# Altium schematic symbol library Schlib1.SchLib: 95 symbols (part 2 of 2)
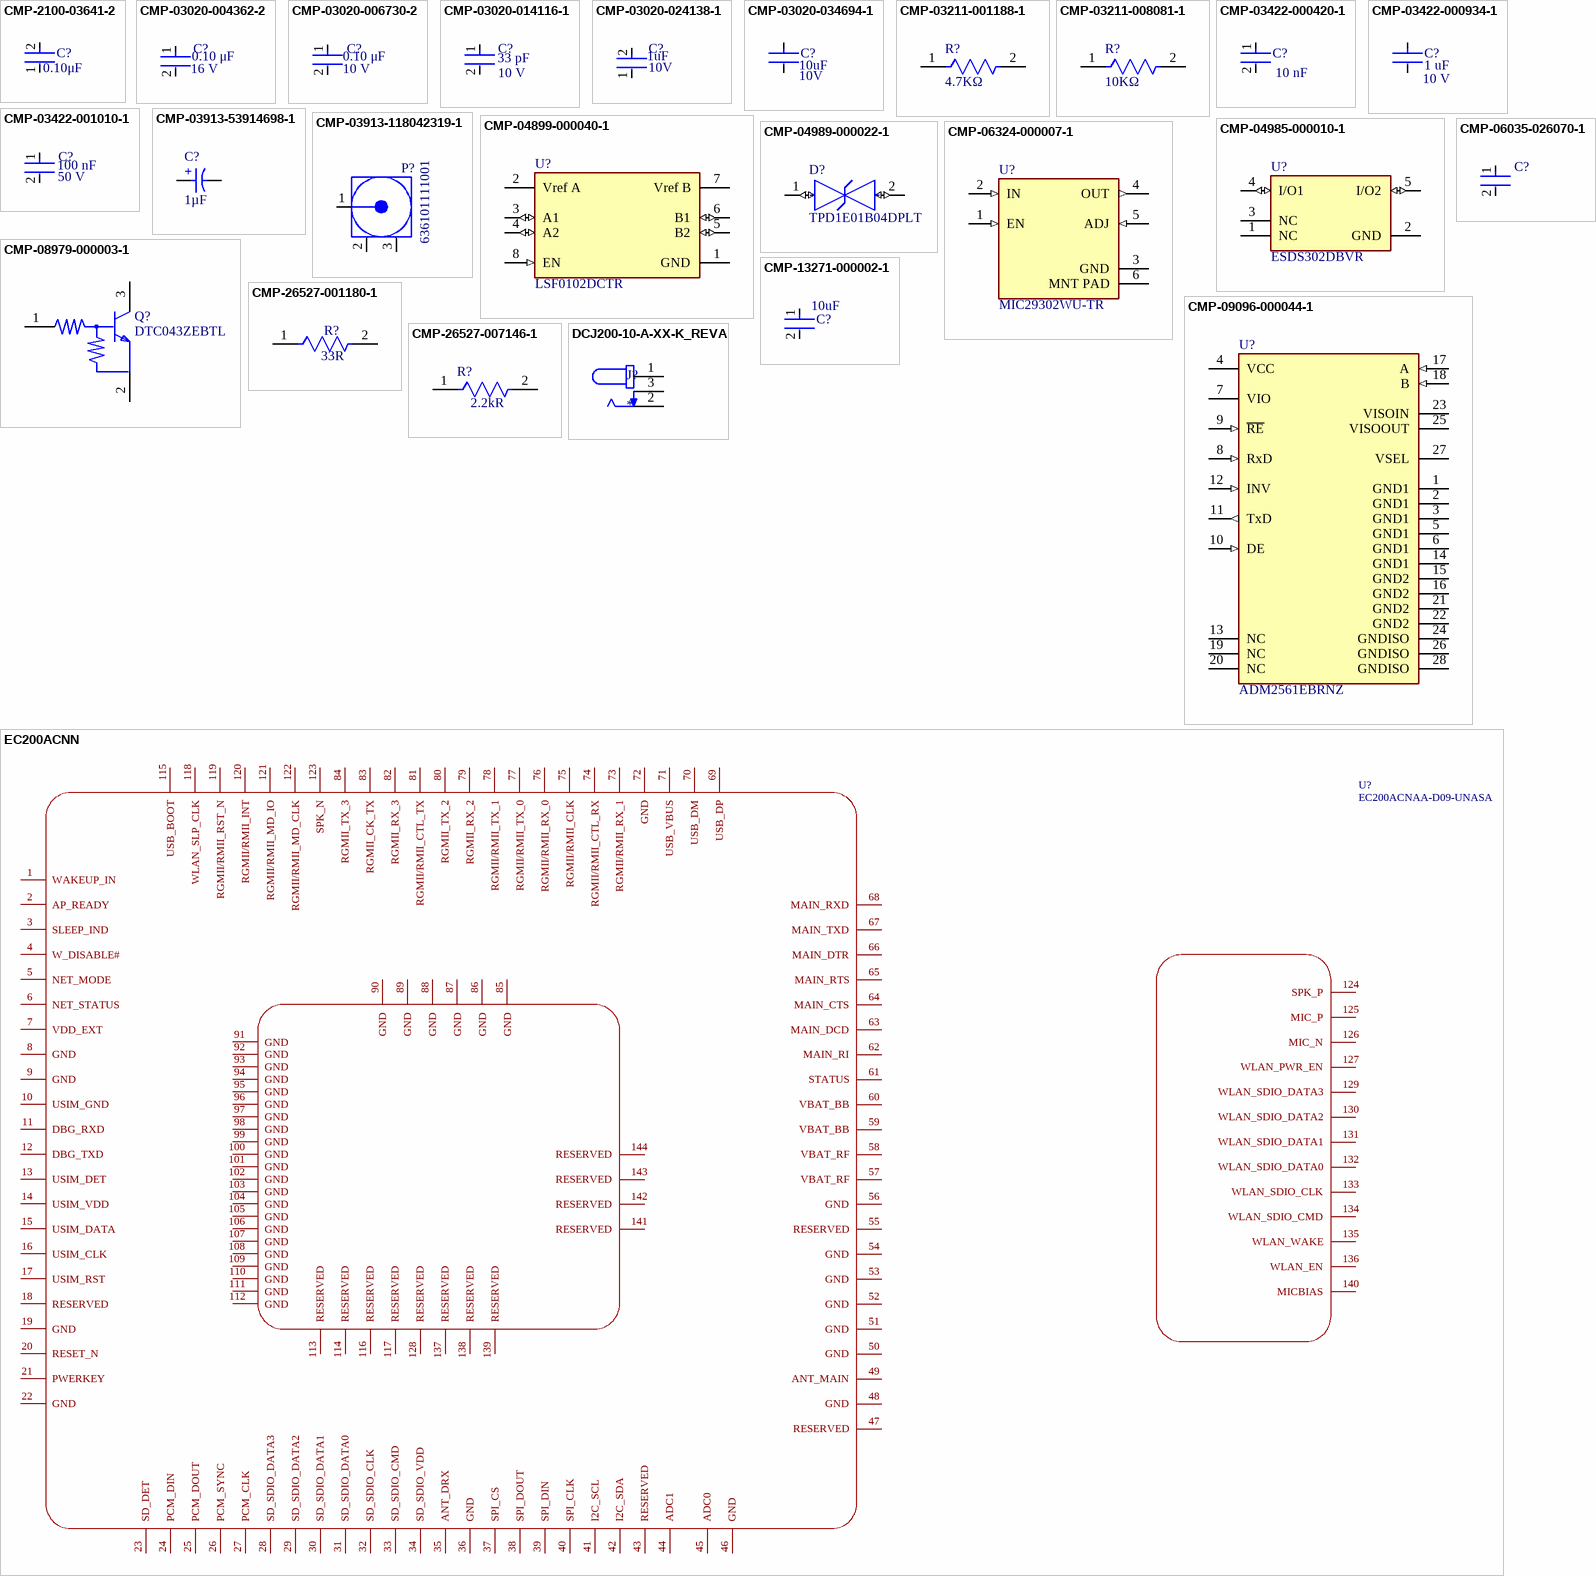
[diagram p4: symbols CMP-2100-03641-2 to EC200ACNN]

## CMP-26527-001180-1
designator R?, comment Resistance: 33R  (hidden comment: RMCF0402JT33R0)
33 Ohms ±5% 0.063W, 1/16W Chip Resistor 0402 (1005 Metric) Automotive AEC-Q200 Thick Film; Max Power Dissipation: 63mW; Temperature Coefficient: 100ppm/°C; Case Code (Metric): 1005; Number of Terminations: 2; Mount: Surface Mount; Case Code (Imperial): 0402; Width: 0.02inch; Max Operating Temperature: 155°C; Radiation Hardening: No; Series: RMCF; Tolerance: 5%; Min Operating Temperature: -55°C; Length: 0.039inch; Case/Package: 0402; RoHS Compliant: Yes; Packaging: Tape and Reel; Features: Automotive AEC-Q200; Height: 0.016inch; Contact Plating: Tin; Resistor Type: Thick Film
footprint FP-RMCF0402-MFG
footprint FP-RMCF0402-IPC_C
footprint FP-RMCF0402-IPC_B
footprint FP-RMCF0402-IPC_A
pins: 1, 2

## CMP-26527-007146-1
designator R?, comment Resistance: 2.2kR  (hidden comment: RMCF0201JT2K20)
2.2 kOhms ±5% 0.05W, 1/20W Chip Resistor 0201 (0603 Metric) Thick Film; Max Power Dissipation: 50mW; Temperature Coefficient: 200ppm/°C; Tolerance: 5%; Number of Terminations: 2; RoHS Compliant: Yes; Max Operating Temperature: 125°C; Resistor Type: Thick Film; Width: 0.012inch; Power Rating: 50mW; Contact Plating: Tin; Height: 0.009inch; Min Operating Temperature: -55°C; Radiation Hardening: No; Case Code (Imperial): 0201; Case/Package: 0201; Mount: Surface Mount; Packaging: Tape and Reel; Case Code (Metric): 0603; Length: 0.024inch; Series: RMCF
footprint FP-RMCF0201-IPC_B
pins: 1, 2

## DCJ200-10-A-XX-K_REVA
designator J?
Power Barrel Connector Jack 2.05mm ID (0.081), 5.50mm OD (0.217) Through Hole, Right Angle; MF: Global Connector Technology; MP: DCJ200-10-A-K1-K; SnapEDA_Link: https://www.snapeda.com/parts/DCJ200-10-A-K1-K/Global+Connector+Technology/view-part/?ref=snap; Package: None; Value: *; Check_prices: https://www.snapeda.com/parts/DCJ200-10-A-K1-K/Global+Connector+Technology/view-part/?ref=eda
footprint GCT_DCJ200-10-A-XX-K_REVA
pins: 1, 2, 3

## EC200ACNN
designator U?, comment EC200ACNAA-D09-UNASA
EC200A-CN-LTE Cat 4 module-EC200ACNAA-D09-UNASA; Add into BOM: yes; Symbol: EC200ACNN; Source: 4G_GATEWAY_ETHERNET.SCHLIB; Convert to PCB: yes; Pin Count: 144; Component Type: Standard; Supplier Part: EC200A; Origin Footprint: EC200ACN; Design Item ID: EC200ACNN; Device: EC200ACNN
footprint EC200ACN
pins: 1 WAKEUP_IN, 2 AP_READY, 3 SLEEP_IND, 4 W_DISABLE#, 5 NET_MODE, 6 NET_STATUS, 7 VDD_EXT, 8 GND, 9 GND, 10 USIM_GND, 11 DBG_RXD, 12 DBG_TXD, 13 USIM_DET, 14 USIM_VDD, 15 USIM_DATA, 16 USIM_CLK, 17 USIM_RST, 18 RESERVED, 19 GND, 20 RESET_N, 21 PWERKEY, 22 GND, 23 SD_DET, 24 PCM_DIN, 25 PCM_DOUT, 26 PCM_SYNC, 27 PCM_CLK, 28 SD_SDIO_DATA3, 29 SD_SDIO_DATA2, 30 SD_SDIO_DATA1, 31 SD_SDIO_DATA0, 32 SD_SDIO_CLK, 33 SD_SDIO_CMD, 34 SD_SDIO_VDD, 35 ANT_DRX, 36 GND, 37 SPI_CS, 38 SPI_DOUT, 39 SPI_DIN, 40 SPI_CLK, 41 I2C_SCL, 42 I2C_SDA, 43 RESERVED, 44 ADC1, 45 ADC0, 46 GND, 47 RESERVED, 48 GND, 49 ANT_MAIN, 50 GND, 51 GND, 52 GND, 53 GND, 54 GND, 55 RESERVED, 56 GND, 57 VBAT_RF, 58 VBAT_RF, 59 VBAT_BB, 60 VBAT_BB, 61 STATUS, 62 MAIN_RI, 63 MAIN_DCD, 64 MAIN_CTS, 65 MAIN_RTS, 66 MAIN_DTR, 67 MAIN_TXD, 68 MAIN_RXD, 69 USB_DP, 70 USB_DM, 71 USB_VBUS, 72 GND, 73 RGMII/RMII_RX_1, 74 RGMII/RMII_CTL_RX, 75 RGMII/RMII_CLK, 76 RGMII/RMII_RX_0, 77 RGMII/RMII_TX_0, 78 RGMII/RMII_TX_1, 79 RGMII_RX_2, 80 RGMII_TX_2, 81 RGMII/RMII_CTL_TX, 82 RGMII_RX_3, 83 RGMII_CK_TX, 84 RGMII_TX_3, 85 GND, 86 GND, 87 GND, 88 GND, 89 GND, 90 GND, 91 GND, 92 GND, 93 GND, 94 GND, 95 GND, 96 GND, 97 GND, 98 GND, 99 GND, 100 GND, 101 GND, 102 GND, 103 GND, 104 GND, 105 GND, 106 GND, 107 GND, 108 GND, 109 GND, 110 GND, 111 GND, 112 GND, 113 RESERVED, 114 RESERVED, 115 USB_BOOT, 116 RESERVED, 117 RESERVED, 118 WLAN_SLP_CLK, 119 RGMII/RMII_RST_N, 120 RGMII/RMII_INT, 121 RGMII/RMII_MD_IO, 122 RGMII/RMII_MD_CLK, 123 SPK_N, 124 SPK_P, 125 MIC_P, 126 MIC_N, 127 WLAN_PWR_EN, 128 RESERVED, 129 WLAN_SDIO_DATA3, 130 WLAN_SDIO_DATA2, 131 WLAN_SDIO_DATA1, 132 WLAN_SDIO_DATA0, 133 WLAN_SDIO_CLK, 134 WLAN_SDIO_CMD, 135 WLAN_WAKE, 136 WLAN_EN, 137 RESERVED, 138 RESERVED, 139 RESERVED, 140 MICBIAS, 141 RESERVED, 142 RESERVED, 143 RESERVED, 144 RESERVED

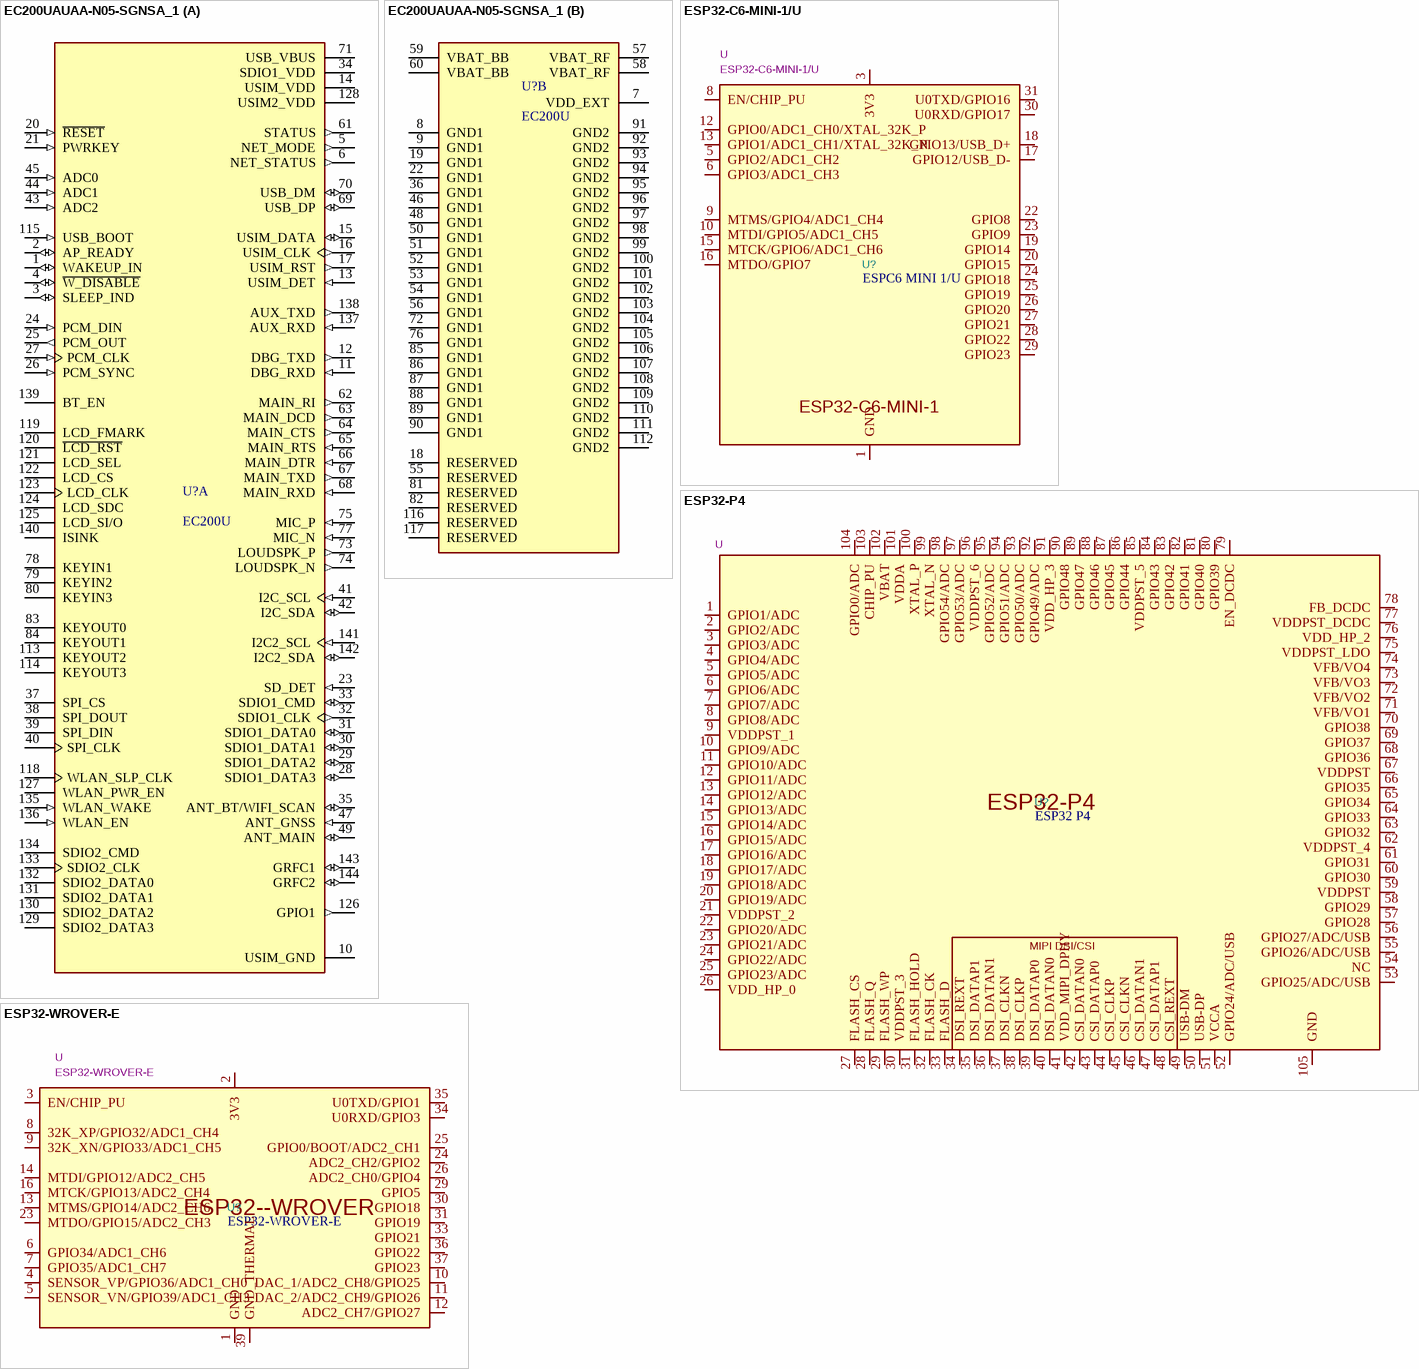
[diagram p2: symbols EC200UAUAA-N05-SGNSA_1 to ESP32-WROVER-E]

## EC200UAUAA-N05-SGNSA_1
designator U?, comment EC200U
Quectel 4G LTE Cat 1 wireless BT GNSS module; MP: EC200UAUAA-N05-SGNSA; SnapEDA_Link: https://www.snapeda.com/parts/EC200UAUAA-N05-SGNSA/Quectel/view-part/?ref=snap; Package: None; Value: *; MF: Quectel; Check_prices: https://www.snapeda.com/parts/EC200UAUAA-N05-SGNSA/Quectel/view-part/?ref=eda
footprint EC200UAUAA-N05-SGNSA
part A pins: 1 WAKEUP_IN (io), 2 AP_READY (io), 3 SLEEP_IND (io), 4 ~{W_DISABLE} (io), 5 NET_MODE (out), 6 NET_STATUS (out), 10 USIM_GND (power), 11 DBG_RXD (in), 12 DBG_TXD (out), 13 USIM_DET (in), 14 USIM_VDD (power), 15 USIM_DATA (io), 16 USIM_CLK (out), 17 USIM_RST (out), 20 ~{RESET} (in), 21 PWRKEY (in), 23 SD_DET (in), 24 PCM_DIN (in), 25 PCM_OUT (out), 26 PCM_SYNC (in), 27 PCM_CLK (in), 28 SDIO1_DATA3 (io), 29 SDIO1_DATA2 (io), 30 SDIO1_DATA1 (io), 31 SDIO1_DATA0 (io), 32 SDIO1_CLK (out), 33 SDIO1_CMD (io), 34 SDIO1_VDD (power), 35 ANT_BT/WIFI_SCAN (io), 37 SPI_CS, 38 SPI_DOUT, 39 SPI_DIN, 40 SPI_CLK, 41 I2C_SCL (in), 42 I2C_SDA (io), 43 ADC2 (in), 44 ADC1 (in), 45 ADC0 (in), 47 ANT_GNSS (in), 49 ANT_MAIN (io), 61 STATUS (out), 62 MAIN_RI (out), 63 MAIN_DCD (out), 64 MAIN_CTS (out), 65 MAIN_RTS (in), 66 MAIN_DTR (in), 67 MAIN_TXD (out), 68 MAIN_RXD (in), 69 USB_DP (io), 70 USB_DM (io), 71 USB_VBUS (power), 73 LOUDSPK_P (out), 74 LOUDSPK_N (out), 75 MIC_P (in), 77 MIC_N (in), 78 KEYIN1, 79 KEYIN2, 80 KEYIN3, 83 KEYOUT0, 84 KEYOUT1, 113 KEYOUT2, 114 KEYOUT3, 115 USB_BOOT (in), 118 WLAN_SLP_CLK, 119 LCD_FMARK, 120 ~{LCD_RST}, 121 LCD_SEL, 122 LCD_CS, 123 LCD_CLK, 124 LCD_SDC, 125 LCD_SI/O, 126 GPIO1 (out), 127 WLAN_PWR_EN, 128 USIM2_VDD (power), 129 SDIO2_DATA3, 130 SDIO2_DATA2, 131 SDIO2_DATA1, 132 SDIO2_DATA0, 133 SDIO2_CLK, 134 SDIO2_CMD, 135 WLAN_WAKE (in), 136 WLAN_EN (in), 137 AUX_RXD (in), 138 AUX_TXD (out), 139 BT_EN, 140 ISINK, 141 I2C2_SCL (in), 142 I2C2_SDA (io), 143 GRFC1 (io), 144 GRFC2 (io)
part B pins: 7 VDD_EXT (power), 8 GND1 (power), 9 GND1 (power), 18 RESERVED, 19 GND1 (power), 22 GND1 (power), 36 GND1 (power), 46 GND1 (power), 48 GND1 (power), 50 GND1 (power), 51 GND1 (power), 52 GND1 (power), 53 GND1 (power), 54 GND1 (power), 55 RESERVED, 56 GND1 (power), 57 VBAT_RF (power), 58 VBAT_RF (power), 59 VBAT_BB (power), 60 VBAT_BB (power), 72 GND1 (power), 76 GND1 (power), 81 RESERVED, 82 RESERVED, 85 GND1 (power), 86 GND1 (power), 87 GND1 (power), 88 GND1 (power), 89 GND1 (power), 90 GND1 (power), 91 GND2 (power), 92 GND2 (power), 93 GND2 (power), 94 GND2 (power), 95 GND2 (power), 96 GND2 (power), 97 GND2 (power), 98 GND2 (power), 99 GND2 (power), 100 GND2 (power), 101 GND2 (power), 102 GND2 (power), 103 GND2 (power), 104 GND2 (power), 105 GND2 (power), 106 GND2 (power), 107 GND2 (power), 108 GND2 (power), 109 GND2 (power), 110 GND2 (power), 111 GND2 (power), 112 GND2 (power), 116 RESERVED, 117 RESERVED

## ESP32-C6-MINI-1/U
designator U?, comment ESPC6 MINI 1/U  value ESP32-C6-MINI-1/U  Reference: U
ESP32-C6-MINI-1 is a module that supports 2.4 GHz Wi-Fi 6 (802.11 ax), Bluetooth® 5 (LE), Zigbee and Thread (802.15.4); ki_keywords: esp32-c6 esp32-c6-mini-1 esp32-c6-mini-1u; Footprint: PCM_Espressif:ESP32-C6-MINI-1; Datasheet: https://www.espressif.com/sites/default/files/documentation/esp32-c6-mini-1_datasheet_en.pdf; Description_: ESP32-C6-MINI-1 is a module that supports 2.4 GHz Wi-Fi 6 (802.11 ax), Bluetooth® 5 (LE), Zigbee and Thread (802.15.4)
footprint ESP32-C6-MINI-1
pins: 1 GND, 2 GND hidden, 3 3V3, 4 NC hidden, 5 GPIO2/ADC1_CH2, 6 GPIO3/ADC1_CH3, 7 NC hidden, 8 EN/CHIP_PU, 9 MTMS/GPIO4/ADC1_CH4, 10 MTDI/GPIO5/ADC1_CH5, 11 GND hidden, 12 GPIO0/ADC1_CH0/XTAL_32K_P, 13 GPIO1/ADC1_CH1/XTAL_32K_N, 14 GND hidden, 15 MTCK/GPIO6/ADC1_CH6, 16 MTDO/GPIO7, 17 GPIO12/USB_D-, 18 GPIO13/USB_D+, 19 GPIO14, 20 GPIO15, 21 NC hidden, 22 GPIO8, 23 GPIO9, 24 GPIO18, 25 GPIO19, 26 GPIO20, 27 GPIO21, 28 GPIO22, 29 GPIO23, 30 U0RXD/GPIO17, 31 U0TXD/GPIO16, 32 NC hidden, 33 NC hidden, 34 NC hidden, 35 NC hidden, 36 GND hidden, 37 GND hidden, 38 GND hidden, 39 GND hidden, 40 GND hidden, 41 GND hidden, 42 GND hidden, 43 GND hidden, 44 GND hidden, 45 GND hidden, 46 GND hidden, 47 GND hidden, 48 GND hidden, 49 GND hidden, 50 GND hidden, 51 GND hidden, 52 GND hidden, 53 GND hidden
text: ESP32-C6-MINI-1

## ESP32-P4
designator U?, comment ESP32 P4  Reference: U
High-performance MCU with one RISC-V 32-bit dual-core microprocessor and one single-core microprocessor; Footprint: PCM_Espressif:Espressif:ESP32-P4; Description_: High-performance MCU with one RISC-V 32-bit dual-core microprocessor and one single-core microprocessor
footprint ESP32-P4
pins: 1 GPIO1/ADC, 2 GPIO2/ADC, 3 GPIO3/ADC, 4 GPIO4/ADC, 5 GPIO5/ADC, 6 GPIO6/ADC, 7 GPIO7/ADC, 8 GPIO8/ADC, 9 VDDPST_1, 10 GPIO9/ADC, 11 GPIO10/ADC, 12 GPIO11/ADC, 13 GPIO12/ADC, 14 GPIO13/ADC, 15 GPIO14/ADC, 16 GPIO15/ADC, 17 GPIO16/ADC, 18 GPIO17/ADC, 19 GPIO18/ADC, 20 GPIO19/ADC, 21 VDDPST_2, 22 GPIO20/ADC, 23 GPIO21/ADC, 24 GPIO22/ADC, 25 GPIO23/ADC, 26 VDD_HP_0, 27 FLASH_CS, 28 FLASH_Q, 29 FLASH_WP, 30 VDDPST_3, 31 FLASH_HOLD, 32 FLASH_CK, 33 FLASH_D, 34 DSI_REXT, 35 DSI_DATAP1, 36 DSI_DATAN1, 37 DSI_CLKN, 38 DSI_CLKP, 39 DSI_DATAP0, 40 DSI_DATAN0, 41 VDD_MIPI_DPHY, 42 CSI_DATAN0, 43 CSI_DATAP0, 44 CSI_CLKP, 45 CSI_CLKN, 46 CSI_DATAN1, 47 CSI_DATAP1, 48 CSI_REXT, 49 USB-DM, 50 USB-DP, 51 VCCA, 52 GPIO24/ADC/USB, 53 GPIO25/ADC/USB, 54 NC, 55 GPIO26/ADC/USB, 56 GPIO27/ADC/USB, 57 GPIO28, 58 GPIO29, 59 VDDPST, 60 GPIO30, 61 GPIO31, 62 VDDPST_4, 63 GPIO32, 64 GPIO33, 65 GPIO34, 66 GPIO35, 67 VDDPST, 68 GPIO36, 69 GPIO37, 70 GPIO38, 71 VFB/VO1, 72 VFB/VO2, 73 VFB/VO3, 74 VFB/VO4, 75 VDDPST_LDO, 76 VDD_HP_2, 77 VDDPST_DCDC, 78 FB_DCDC, 79 EN_DCDC, 80 GPIO39, 81 GPIO40, 82 GPIO41, 83 GPIO42, 84 GPIO43, 85 VDDPST_5, 86 GPIO44, 87 GPIO45, 88 GPIO46, 89 GPIO47, 90 GPIO48, 91 VDD_HP_3, 92 GPIO49/ADC, 93 GPIO50/ADC, 94 GPIO51/ADC, 95 GPIO52/ADC, 96 VDDPST_6, 97 GPIO53/ADC, 98 GPIO54/ADC, 99 XTAL_N, 100 XTAL_P, 101 VDDA, 102 VBAT, 103 CHIP_PU, 104 GPIO0/ADC, 105 GND
text: MIPI DSI/CSI

## ESP32-WROVER-E
designator U?  Reference: U
ESP32-WROVER-E and ESP32-WROVER-IE are two powerful, generic WiFi-BT-BLE MCU modules that target a wide variety of applications, ranging from low-power sensor networks to the most demanding tasks, such as voice encoding, music streaming and MP3 decoding. ESP32-WROVER-E comes with a PCB antenna, and ESP32-WROVER-IE with an IPEX antenna. They both featurea 4 MB external SPI flash and an additional 8 MB SPI Pseudo static RAM (PSRAM).; ki_keywords: ESP32; Footprint: PCM_Espressif:ESP32-WROVER-E; Datasheet: https://www.espressif.com/sites/default/files/documentation/esp32-wrover-e_esp32-wrover-ie_datasheet_en.pdf; Description_: ESP32-WROVER-E and ESP32-WROVER-IE are two powerful, generic WiFi-BT-BLE MCU modules that target a wide variety of applications, ranging from low-power sensor networks to the most demanding tasks, such as voice encoding, music streaming and MP3 decoding. ESP32-WROVER-E comes with a PCB antenna, and ESP32-WROVER-IE with an IPEX antenna. They both featurea 4 MB external SPI flash and an additional 8 MB SPI Pseudo static RAM (PSRAM).; Value: ESP32-WROVER-E
footprint ESP32-WROVER-E
pins: 1 GND, 2 3V3, 3 EN/CHIP_PU, 4 SENSOR_VP/GPIO36/ADC1_CH0, 5 SENSOR_VN/GPIO39/ADC1_CH3, 6 GPIO34/ADC1_CH6, 7 GPIO35/ADC1_CH7, 8 32K_XP/GPIO32/ADC1_CH4, 9 32K_XN/GPIO33/ADC1_CH5, 10 DAC_1/ADC2_CH8/GPIO25, 11 DAC_2/ADC2_CH9/GPIO26, 12 ADC2_CH7/GPIO27, 13 MTMS/GPIO14/ADC2_CH6, 14 MTDI/GPIO12/ADC2_CH5, 15 GND hidden, 16 MTCK/GPIO13/ADC2_CH4, 23 MTDO/GPIO15/ADC2_CH3, 24 ADC2_CH2/GPIO2, 25 GPIO0/BOOT/ADC2_CH1, 26 ADC2_CH0/GPIO4, 29 GPIO5, 30 GPIO18, 31 GPIO19, 33 GPIO21, 34 U0RXD/GPIO3, 35 U0TXD/GPIO1, 36 GPIO22, 37 GPIO23, 38 GND hidden, 39 GND_THERMAL
text: ESP32-­WROVER

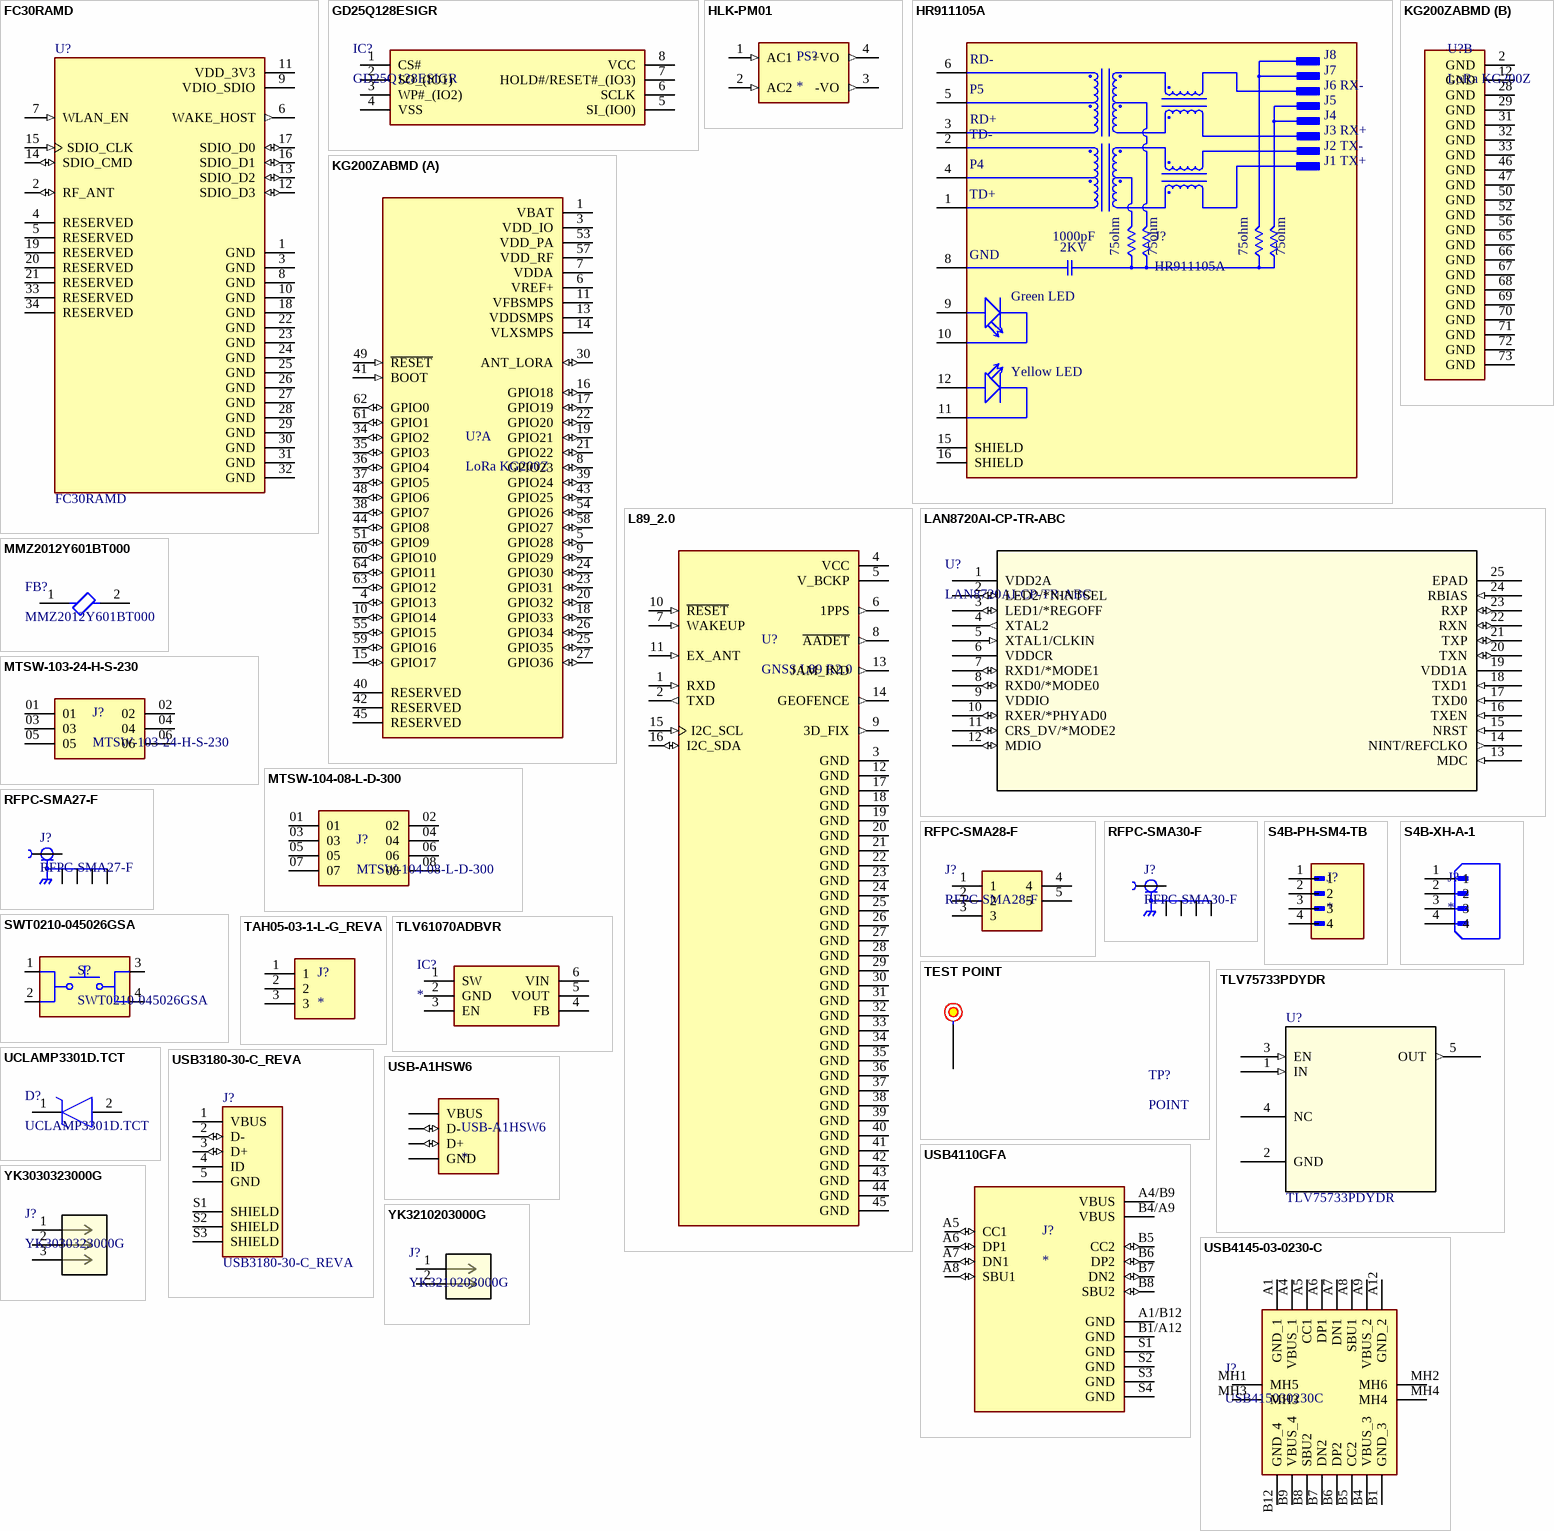
[diagram p3: symbols FC30RAMD to YK3210203000G]

## FC30RAMD
designator U?
Bluetooth, WiFi Transceiver Module Surface Mount; MF: Quectel; SnapEDA_Link: https://www.snapeda.com/parts/FC30RAMD/Quectel/view-part/?ref=snap; Package: None; Value: *; MP: FC30RAMD; Check_prices: https://www.snapeda.com/parts/FC30RAMD/Quectel/view-part/?ref=eda
footprint XCVR_FC30RAMD
pins: 1 GND (power), 2 RF_ANT (io), 3 GND (power), 4 RESERVED, 5 RESERVED, 6 WAKE_HOST (out), 7 WLAN_EN (in), 8 GND (power), 9 VDIO_SDIO (power), 10 GND (power), 11 VDD_3V3 (power), 12 SDIO_D3 (io), 13 SDIO_D2 (io), 14 SDIO_CMD (io), 15 SDIO_CLK (in), 16 SDIO_D1 (io), 17 SDIO_D0 (io), 18 GND (power), 19 RESERVED, 20 RESERVED, 21 RESERVED, 22 GND (power), 23 GND (power), 24 GND (power), 25 GND (power), 26 GND (power), 27 GND (power), 28 GND (power), 29 GND (power), 30 GND (power), 31 GND (power), 32 GND (power), 33 RESERVED, 34 RESERVED

## GD25Q128ESIGR
designator IC?
FLASH - NOR Memory IC 128Mbit SPI - Quad I/O 133 MHz 7 ns 8-SOP; Manufacturer_Name: GigaDevice Semiconductor (HK) Limited; Datasheet Link: https://www.mouser.vn/ProductDetail/GigaDevice/GD25Q128ESIGR?qs=GedFDFLaBXEn3Si%252BVvAJYw%3D%3D; Height: 2.16mm; Manufacturer_Part_Number: GD25Q128ESIGR; Mouser Part Number: 363-GD25Q128ESIGR; Mouser Price/Stock: https://www.mouser.co.uk/ProductDetail/GigaDevice/GD25Q128ESIGR?qs=GedFDFLaBXEn3Si%252BVvAJYw%3D%3D
footprint SOIC127P600X175-8N
pins: 1 CS#, 2 SO_(IO1), 3 WP#_(IO2), 4 VSS, 5 SI_(IO0), 6 SCLK, 7 HOLD#/RESET#_(IO3), 8 VCC

## HLK-PM01
designator PS?
The HLK-PM01 is a small size low cost AC to DC converter which can take in 110V/220V AC at 50/60 Hz and give 5V 3W output. The module is can be used in designs which run on 5V and needs to be powered form the AC mains.; MF: Hi-link; SnapEDA_Link: https://www.snapeda.com/parts/hlk-pm01/Hi-link/view-part/?ref=snap; Package: None; Value: *; MP: hlk-pm01; Check_prices: https://www.snapeda.com/parts/hlk-pm01/Hi-link/view-part/?ref=eda
footprint CONV_HLK-PM01
pins: 1 AC1 (in), 2 AC2 (in), 3 -VO (out), 4 +VO (out)

## HR911105A
designator J?
HR911105A - Hanrun - RJ45 Horizontal - Ethernet Transformer-RJ45 Lan Ethernet Connector for ENC28J60 / W5100, Genuine Hanrun with Integrated Magnetics; SnapEDA_Link: https://www.snapeda.com/parts/HR911105A/HanRun/view-part/?ref=snap; Package: None; MP: HR911105A; MF: hanrun; Check_prices: https://www.snapeda.com/parts/HR911105A/HanRun/view-part/?ref=eda; Price: None; Value: *; Availability: Not in stock
footprint HANRUN_HR911105A
pins: 1 TD+, 2 TD-, 3 RD+, 4 P4, 5 P5, 6 RD-, 8 GND (power), 9 GA, 10 GC, 11 YC, 12 YA, 15 SHIELD, 16 SHIELD
text: J8; J7; J6 RX-; J5; J4; J3 RX+; J2 TX-; J1 TX+; 1000pF; 2KV; 75ohm; Green LED; Yellow LED

## KG200ZABMD
designator U?, comment LoRa KG200Z
KG200Z-LORA-Quectel-12 mm × 12 mm × 1.8 mm; MP: KG200ZABMD; Package: None; Price: None; Value: *; Availability: Unavailable
footprint LoRa_KG200ZABMD
part A pins: 1 VBAT (power), 3 VDD_IO (power), 4 GPIO13 (io), 5 GPIO28 (io), 6 VREF+ (power), 7 VDDA (power), 8 GPIO23 (io), 9 GPIO29 (io), 10 GPIO14 (io), 11 VFBSMPS (power), 13 VDDSMPS (power), 14 VLXSMPS (power), 15 GPIO17 (io), 16 GPIO18 (io), 17 GPIO19 (io), 18 GPIO33 (io), 19 GPIO21 (io), 20 GPIO32 (io), 21 GPIO22 (io), 22 GPIO20 (io), 23 GPIO31 (io), 24 GPIO30 (io), 25 GPIO35 (io), 26 GPIO34 (io), 27 GPIO36 (io), 30 ANT_LORA (io), 34 GPIO2 (io), 35 GPIO3 (io), 36 GPIO4 (io), 37 GPIO5 (io), 38 GPIO7 (io), 39 GPIO24 (io), 40 RESERVED, 41 BOOT (in), 42 RESERVED, 43 GPIO25 (io), 44 GPIO8 (io), 45 RESERVED, 48 GPIO6 (io), 49 ~{RESET} (in), 51 GPIO9 (io), 53 VDD_PA (power), 54 GPIO26 (io), 55 GPIO15 (io), 57 VDD_RF (power), 58 GPIO27 (io), 59 GPIO16 (io), 60 GPIO10 (io), 61 GPIO1 (io), 62 GPIO0 (io), 63 GPIO12 (io), 64 GPIO11 (io)
part B pins: 2 GND (power), 12 GND (power), 28 GND (power), 29 GND (power), 31 GND (power), 32 GND (power), 33 GND (power), 46 GND (power), 47 GND (power), 50 GND (power), 52 GND (power), 56 GND (power), 65 GND (power), 66 GND (power), 67 GND (power), 68 GND (power), 69 GND (power), 70 GND (power), 71 GND (power), 72 GND (power), 73 GND (power)

## L89_2.0
designator U?, comment GNSS L89 R2.0
L89 is a high performance IRNSS-enabled GNSS module, capable of acquiring and tracing GPS, IRNSS, GLONASS, BeiDou, Galileo and QZSS signals.26.4mm × 18.4mm × 6.8mm; MF: Quectel; MP: L89 2.0; SnapEDA_Link: https://www.snapeda.com/parts/L89%202.0/Quectel/view-part/?ref=snap; Package: Package; Value: *; Check_prices: https://www.snapeda.com/parts/L89%202.0/Quectel/view-part/?ref=eda
footprint GPS_L89_2.0
pins: 1 RXD (in), 2 TXD (out), 3 GND (power), 4 VCC (power), 5 V_BCKP (power), 6 1PPS (out), 7 WAKEUP (in), 8 ~{AADET} (out), 9 3D_FIX (out), 10 ~{RESET} (in), 11 EX_ANT (in), 12 GND (power), 13 JAM_IND (out), 14 GEOFENCE (out), 15 I2C_SCL (in), 16 I2C_SDA (io), 17 GND (power), 18 GND (power), 19 GND (power), 20 GND (power), 21 GND (power), 22 GND (power), 23 GND (power), 24 GND (power), 25 GND (power), 26 GND (power), 27 GND (power), 28 GND (power), 29 GND (power), 30 GND (power), 31 GND (power), 32 GND (power), 33 GND (power), 34 GND (power), 35 GND (power), 36 GND (power), 37 GND (power), 38 GND (power), 39 GND (power), 40 GND (power), 41 GND (power), 42 GND (power), 43 GND (power), 44 GND (power), 45 GND (power)

## LAN8720AI-CP-TR-ABC
designator U?
IC TRANSCEIVER FULL 2/2 24SQFN,2/2 Transceiver Full MII, RMII 24-SQFN (4x4); Manufacturer_Name: Microchip; Copyright: Copyright (C) 2025 Ultra Librarian. All rights reserved.; Manufacturer_Part_Number: LAN8720AI-CP-TR-ABC; RefDes: RefDes; Type: Type
footprint LAN8720A
pins: 1 VDD2A (power), 2 LED2/*NINTSEL (io), 3 LED1/*REGOFF (io), 4 XTAL2 (out), 5 XTAL1/CLKIN (in), 6 VDDCR (power), 7 RXD1/*MODE1 (io), 8 RXD0/*MODE0 (io), 9 VDDIO (power), 10 RXER/*PHYAD0 (io), 11 CRS_DV/*MODE2 (io), 12 MDIO (io), 13 MDC (in), 14 NINT/REFCLKO (out), 15 NRST (in), 16 TXEN (in), 17 TXD0 (in), 18 TXD1 (in), 19 VDD1A (power), 20 TXN (io), 21 TXP (io), 22 RXN (io), 23 RXP (io), 24 RBIAS (in), 25 EPAD

## MMZ2012Y601BT000
designator FB?
600 Ohms @ 100 MHz 1 Signal Line Ferrite Bead 0805 (2012 Metric) 500mA 200mOhm; Manufacturer_Name: TDK; Datasheet Link: https://product.tdk.com/system/files/dam/doc/product/emc/emc/beads/catalog/beads_commercial_signal_mmz2012_en.pdf; Height: 1.05mm; Manufacturer_Part_Number: MMZ2012Y601BT000; Mouser Part Number: 810-MMZ2012Y601BT000; Mouser Price/Stock: https://www.mouser.co.uk/ProductDetail/TDK/MMZ2012Y601BT000?qs=vcNEnGV6fuUqcxlKbU5%2Fbg%3D%3D; Arrow Part Number: MMZ2012Y601BT000; Arrow Price/Stock: https://www.arrow.com/en/products/mmz2012y601bt000/tdk?utm_currency=USD&region=nac
footprint BEADC2012X105N
pins: 1, 2

## MTSW-103-24-H-S-230
designator J?
CONN HEADER VERT 3POS 2.54MM; MF: {'manufacturer': u'Samtec Inc.'}; MP: MTSW-103-X-X-D-X; Package: None; Price: None; Value: 2.54mm; Availability: Unavailable
footprint SAMTEC_MTSW-103-X-X-D-X
pins: 01, 02, 03, 04, 05, 06

## MTSW-104-08-L-D-300
designator J?
CONN HEADER VERT 8POS 2.54MM; Package: None; Price: None; Value: *; MP: MTSW-104-08-L-D-300; Availability: Unavailable
footprint SAMTEC_MTSW-104-08-L-D-300
pins: 01, 02, 03, 04, 05, 06, 07, 08

## RFPC-SMA27-F
designator J?
SMA Connector Jack, Female Socket 50 Ohms Through Hole, Right Angle Solder; MF: GCT; Package: None; Price: None; Value: *; MP: RFPC-SMA27-F; Availability: Unavailable
footprint GRADCONN_RFPC-SMA27-F
pins: 1, G1 (power), G2 (power), G3 (power), G4 (power)

## RFPC-SMA28-F
designator J?
SMA Connector Jack, Female Socket 50 Ohms Through Hole Solder; Manufacturer_Name: Gradconn; Datasheet Link: GCT; Height: 9.8mm; Manufacturer_Part_Number: RFPC-SMA28-F; Mouser Part Number: 640-RFPCSMA28F; Mouser Price/Stock: https://www.mouser.co.uk/ProductDetail/Gradconn/RFPC-SMA28-F?qs=olJun0bQHM%252BSsX2%2FRiEejA%3D%3D
footprint RFPCSMA28F
pins: 1, 2, 3, 4, 5

## RFPC-SMA30-F
designator J?
RP-SMA Connector Jack, Male Pin 50 Ohms Through Hole, Right Angle Solder; MF: {'manufacturer': u'GradConn'}; Package: None; Price: None; Value: *; MP: RFPC-SMA30-F; Availability: Unavailable
footprint GRADCONN_RFPC-SMA30-F
pins: 1, G1 (power), G2 (power), G3 (power), G4 (power)

## S4B-PH-SM4-TB
designator J?
Connector Header Surface Mount, Right Angle 4 position 0.079 (2.00mm); MF: JST Sales; MP: S4B-PH-SM4-TB; SnapEDA_Link: https://www.snapeda.com/parts/S4B-PH-SM4-TB/JST/view-part/?ref=snap; Package: None; Value: *; Check_prices: https://www.snapeda.com/parts/S4B-PH-SM4-TB/JST/view-part/?ref=eda
footprint JST_S4B-PH-SM4-TB
pins: 1, 2, 3, 4

## S4B-XH-A-1
designator J?
Connector Header Through Hole, Right Angle 4 position 0.098 (2.50mm); MF: JST Sales; MP: S4B-XH-A-1; SnapEDA_Link: https://www.snapeda.com/parts/S4B-XH-A-1/JST/view-part/?ref=snap; Package: None; Value: *; Check_prices: https://www.snapeda.com/parts/S4B-XH-A-1/JST/view-part/?ref=eda
footprint JST_S4B-XH-A-1
pins: 1, 2, 3, 4

## SWT0210-045026GSA
designator S?
TACTILE SWITCH, SPST-NO, 4.5 X 4; MP: SWT0210-045026GSA_REVA; Package: None; Price: None; Value: *; Availability: Unavailable
footprint SW_SWT0210-045026GSA_REVA
pins: 1, 2, 3, 4

## TAH05-03-1-L-G_REVA
designator J?
5mm Side Entry Through Hole Terminal Block; MF: Global Connector Technology; MP: TAH05-03-1-L-G; SnapEDA_Link: https://www.snapeda.com/parts/TAH05-03-1-L-G/Global+Connector+Technology/view-part/?ref=snap; Package: None; Value: *; Check_prices: https://www.snapeda.com/parts/TAH05-03-1-L-G/Global+Connector+Technology/view-part/?ref=eda
footprint GCT_TAH05-03-1-L-G_REVA
pins: 1, 2, 3

## TEST POINT
designator TP?, comment POINT
TEST POINT 0.6MM DIA-TOP LAYER PAD; ComponentLink1Description: New link; ComponentLink1URL: *
footprint TP? (TEST PAD 0.6MM DIA)
pins: TP? (oc) "CUSTOM_TEST POINT"

## TLV61070ADBVR
designator IC?
Integrated Circuit; Manufacturer_Name: Texas Instruments; Manufacturer_Part_Number: TLV61070ADBVR; Datasheet Link: https://www.ti.com/lit/ds/symlink/tlv61070a.pdf?HQS=dis-mous-null-mousermode-dsf-pf-null-wwe&ts=1668211309833&ref_url=https%253A%252F%252Fwww.mouser.com%252F; Height: 1.45mm; Mouser Part Number: 595-TLV61070ADBVR; Mouser Price/Stock: https://www.mouser.co.uk/ProductDetail/Texas-Instruments/TLV61070ADBVR?qs=T%252BzbugeAwjhLlT1empixsw%3D%3D; Arrow Part Number: TLV61070ADBVR; Arrow Price/Stock: https://www.arrow.com/en/products/tlv61070adbvr/texas-instruments?utm_currency=USD&region=nac
footprint SOT95P280X145-6N
pins: 1 SW, 2 GND, 3 EN, 4 FB, 5 VOUT, 6 VIN

## TLV75733PDYDR
designator U?
1-A, low-IQ high-accuracy low-dropout (LDO) voltage regulator with enable 5-SOT-23 -40 to 125; Manufacturer_Name: Texas Instruments; Copyright: Copyright (C) 2025 Ultra Librarian. All rights reserved.; Manufacturer_Part_Number: TLV75733PDYDR; Datasheet: https://www.ti.com/lit/gpn/tlv757p; RefDes: RefDes; Type: Type
footprint TLV75733PDYDR
pins: 1 IN (in), 2 GND (power), 3 EN (in), 4 NC, 5 OUT (out)

## UCLAMP3301D.TCT
designator D?
9.5V Clamp 10A (8/20µs) Ipp Tvs Diode Surface Mount SOD-323; Manufacturer_Name: SEMTECH; Datasheet Link: https://componentsearchengine.com/Datasheets/2/UCLAMP3301D.TCT.pdf; Height: 1.17mm; Manufacturer_Part_Number: UCLAMP3301D.TCT; Mouser Part Number: 947-UCLAMP3301D.TCT; Mouser Price/Stock: https://www.mouser.co.uk/ProductDetail/Semtech/UCLAMP3301D.TCT?qs=rBWM4%252BvDhIcs1MIPFV0RMQ%3D%3D; Arrow Part Number: UCLAMP3301D.TCT; Arrow Price/Stock: https://www.arrow.com/en/products/uclamp3301d.tct/semtech?region=europe
footprint SOD2613X117N
pins: 1 K, 2 A

## USB3180-30-C_REVA
designator J?
Micro USB receptacle, Type B, SMT, Vertical with Through hole shell shakes; Price: None; MP: USB3180-30-C_REVA; Value: *; Availability: Unavailable; Package: None
footprint GCT_USB3180-30-C_REVA
pins: 1 VBUS (power), 2 D- (io), 3 D+ (io), 4 ID, 5 GND (power), S1 SHIELD, S2 SHIELD, S3 SHIELD

## USB4110GFA
designator J?
USB-C (USB TYPE-C) USB 2.0 Receptacle Connector 24 (16+8 Dummy) Position Surface Mount, Right Angle; MF: Global Connector Technology; MP: USB4110GFA; SnapEDA_Link: https://www.snapeda.com/parts/USB4110GFA/Global+Connector+Technology/view-part/?ref=snap; Package: None; Value: *; Check_prices: https://www.snapeda.com/parts/USB4110GFA/Global+Connector+Technology/view-part/?ref=eda
footprint GCT_USB4110GFA
pins: A1/B12 GND (power), A4/B9 VBUS (power), A5 CC1 (io), A6 DP1 (io), A7 DN1 (io), A8 SBU1 (io), B1/A12 GND (power), B4/A9 VBUS (power), B5 CC2 (io), B6 DP2 (io), B7 DN2 (io), B8 SBU2 (io), S1 GND (power), S2 GND (power), S3 GND (power), S4 GND (power)

## USB4145-03-0230-C
designator J?, comment USB415030230C
USB-TYPE-C, Vertical view, Mount Top,USB415030230C; Manufacturer_Name: GCT (GLOBAL CONNECTOR TECHNOLOGY); Manufacturer_Part_Number: USB4145-03-0230-C; Datasheet Link: https://gct.co/newark/connector/USB4145; Height: 7.66mm; Mouser Part Number: 640-USB4145-3-0230-C; Mouser Price/Stock: https://www.mouser.co.uk/ProductDetail/GCT/USB4145-03-0230-C?qs=vvQtp7zwQdObw3D6iVsXIA%3D%3D
footprint USB4145030230C
pins: A1 GND_1, A4 VBUS_1, A5 CC1, A6 DP1, A7 DN1, A8 SBU1, A9 VBUS_2, A12 GND_2, B1 GND_3, B4 VBUS_3, B5 CC2, B6 DP2, B7 DN2, B8 SBU2, B9 VBUS_4, B12 GND_4, MH1 MH5, MH2 MH6, MH3, MH4

## USB-A1HSW6
designator USB-A1HSW6
USB-A (USB TYPE-A) Receptacle Connector 4 Position Through Hole, Right Angle; MF: {'manufacturer': u'On Shore Technology Inc.'}; MP: USB-A1HSW6; Package: None; Price: None; Value: *; Availability: Unavailable
footprint OST_USB-A1HSW6
pins: 1 VBUS (power), 2 D- (io), 3 D+ (io), 4 GND (power)

## YK3030323000G
designator J?
3 Circuit 0.300" (7.62mm) Barrier Block Connector Screws with Captive Plate; Manufacturer_Name: Amphenol ICC; Type: Barrier Blocks; Copyright: Copyright (C) 2025 Ultra Librarian. All rights reserved.; Manufacturer_Part_Number: YK3030323000G; RefDes: RefDes
footprint CONN3_YK30303_AMP
pins: 1, 2, 3

## YK3210203000G
designator J?
2 Circuit 0.300" (7.62mm) Barrier Block Connector Screws with Captive Plate; Manufacturer_Name: Amphenol ICC; Type: Barrier Blocks; Copyright: Copyright (C) 2025 Ultra Librarian. All rights reserved.; Manufacturer_Part_Number: YK3210203000G; RefDes: RefDes
footprint CONN_YK321020xx00G_AMP
pins: 1, 2